# Altium integrated library Cypress PSoC 1.IntLib: 188 symbols (part 9 of 11)
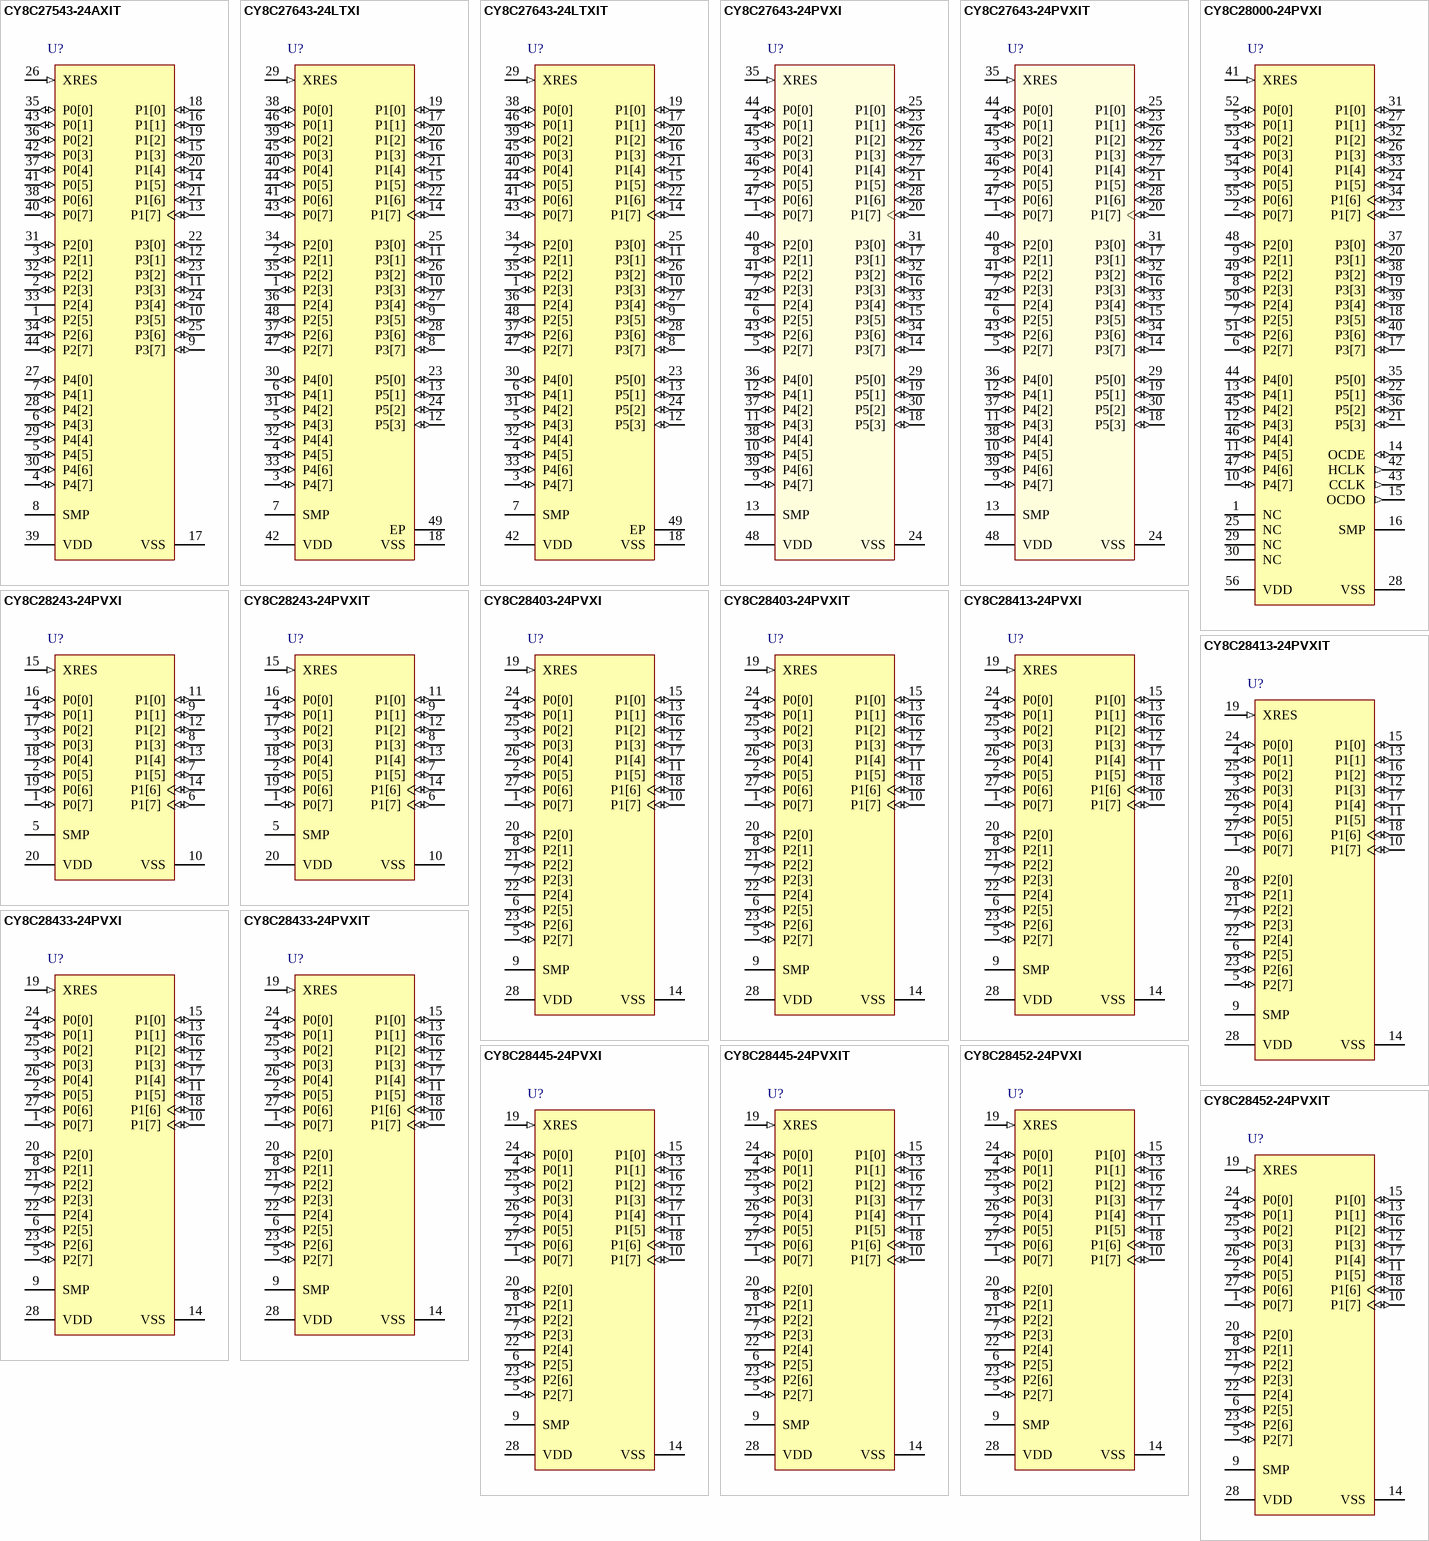
[diagram p19: symbols CY8C27543-24AXIT to CY8C28452-24PVXIT]

## CY8C28413-24PVXIT
designator U?
PSoC Programmable System-on-Chip, 16 KB Flash, 24 GPIOs, 3.00 to 5.25 V, 28-Pin SSOP (O28.21), Tape and Reel; Manufacturer: Cypress; PartNumber: CY8C28413-24PVXIT; No. of CapSense IO: 24; Flash (KB): 16; Max. Operating Voltage (V): 5.25; Min. Operating Voltage (V): 3.00; No. of Programmable Digital Blocks: 12; DatasheetVersion: Rev. *M; PackageVersion: *C; PackageReference: PVX28; PackageDescription: 28-Pin SSOP, Body 10.2 x 5.3 mm, Pitch 0.65 mm; Supplier 1: Digi-Key; Supplier Part Number 1: CY8C28413-24PVXIT-ND; Supplier 2: Mouser; Supplier Part Number 2: 727-8C2841324PVXIT; Mounting Technology: Surface Mount; ComponentLink1Description: Manufacturer URL; ComponentLink1URL: http://www.cypress.com/; ComponentLink2Description: Datasheet; ComponentLink2URL: http://www.cypress.com/?docID=46091; ComponentLink3Description: Package Specification; ComponentLink3URL: http://www.cypress.com/?docID=1371; ComponentLink4Description: Product URL; ComponentLink4URL: http://www.cypress.com/?rID=35242
footprint CYP-PVX28_N (SOP, 28-Leads, Body 10.2x5.3mm, Pitch 0.65mm, IPC Medium Density)
footprint CYP-PVX28_L (SOP, 28-Leads, Body 10.2x5.3mm, Pitch 0.65mm, IPC High Density)
footprint CYP-PVX28_M (SOP, 28-Leads, Body 10.2x5.3mm, Pitch 0.65mm, IPC Low Density)
pins: 1 P0[7] (io) "Analog column mux and SAR ADC input.", 2 P0[5] (io) "Analog column mux and SAR ADC input.Analog column output.", 3 P0[3] (io) "Analog column mux and SAR ADC input.Analog column output.", 4 P0[1] (io) "Analog column mux and SAR ADC intput.", 5 P2[7] (io), 6 P2[5] (io), 7 P2[3] (io) "Direct switched capacitor block input.", 8 P2[1] (io) "Direct switched capacitor block input.", 9 SMP (power) "Switch Mode Pump (SMP) connection to external components.", 10 P1[7] (io) "I2C0 Serial Clock (SCL).", 11 P1[5] (io) "I2C0 Serial Data (SDA).", 12 P1[3] (io), 13 P1[1] (io) "Crystal Input (XTALin), I2C0 Serial Clock(SCL),ISSP-SCLK", 14 VSS (power) "Ground connection.", 15 P1[0] (io) "Crystal Output (XTALout), I2C0 Serial Data(SDA),ISSP-SDATA.", 16 P1[2] (io) "I2C1 Serial Data (SDA).", 17 P1[4] (io) "Optional External Clock Input (EXTCLK).", 18 P1[6] (io) "I2C1 Serial Clock (SCL).", 19 XRES (in) "Active high external reset with internal", 20 P2[0] (io) "Direct switched capacitor block input.", 21 P2[2] (io) "Direct switched capacitor block input.", 22 P2[4] (power) "External Analog Ground (AGND).", 23 P2[6] (io) "External Voltage Reference (VRef).", 24 P0[0] (io) "Analog column mux and SAR ADC input.", 25 P0[2] (io) "Analog column mux and SAR ADC input.Analog column output.", 26 P0[4] (io) "Analog column mux and SAR ADC input.Analog column output.", 27 P0[6] (io) "Analog column mux and SAR ADC input.", 28 VDD (power) "Supply voltage."

## CY8C28433-24PVXI
designator U?
PSoC Programmable System-on-Chip, 16 KB Flash, 24 GPIOs, 3.00 to 5.25 V, 28 Pin SSOP (O28.21); Manufacturer: Cypress; PartNumber: CY8C28433-24PVXI; No. of CapSense IO: 24; Flash (KB): 16; Max. Operating Voltage (V): 5.25; Min. Operating Voltage (V): 3.00; No. of Programmable Digital Blocks: 12; DatasheetVersion: Rev. *M; PackageVersion: *C; PackageReference: PVX28; PackageDescription: 28-Pin SSOP, Body 10.2 x 5.3 mm, Pitch 0.65 mm; Supplier 1: Digi-Key; Supplier Part Number 1: 428-2998-5-ND; Supplier 2: Mouser; Supplier Part Number 2: 727-CY8C2843324PVXI; Mounting Technology: Surface Mount; ComponentLink1Description: Manufacturer URL; ComponentLink1URL: http://www.cypress.com/; ComponentLink2Description: Datasheet; ComponentLink2URL: http://www.cypress.com/?docID=46091; ComponentLink3Description: Package Specification; ComponentLink3URL: http://www.cypress.com/?docID=1371; ComponentLink4Description: Product URL; ComponentLink4URL: http://www.cypress.com/?rID=35242
footprint CYP-PVX28_N (SOP, 28-Leads, Body 10.2x5.3mm, Pitch 0.65mm, IPC Medium Density)
footprint CYP-PVX28_L (SOP, 28-Leads, Body 10.2x5.3mm, Pitch 0.65mm, IPC High Density)
footprint CYP-PVX28_M (SOP, 28-Leads, Body 10.2x5.3mm, Pitch 0.65mm, IPC Low Density)
pins: 1 P0[7] (io) "Analog column mux and SAR ADC input.", 2 P0[5] (io) "Analog column mux and SAR ADC input. Analog column output.", 3 P0[3] (io) "Analog column mux and SAR ADC input. Analog column output.", 4 P0[1] (io) "Analog column mux and SAR ADC input.", 5 P2[7] (io), 6 P2[5] (io), 7 P2[3] (io) "Direct switched capacitor block input.", 8 P2[1] (io) "Direct switched capacitor block input.", 9 SMP (power) "Switch Mode Pump (SMP) connection to external components.", 10 P1[7] (io) "I2C0 Serial Clock (SCL).", 11 P1[5] (io) "I2C0 Serial Data (SDA).", 12 P1[3] (io), 13 P1[1] (io) "Crystal Input (XTALin), I2C0 Serial Clock (SCL), ISSP-SCLK.", 14 VSS (power) "Ground connection.", 15 P1[0] (io) "Crystal Output (XTALout), I2C0 Serial Data (SDA), ISSP-SDATA", 16 P1[2] (io) "I2C1 Serial Data (SDA).", 17 P1[4] (io) "Optional External Clock Input (EXTCLK).", 18 P1[6] (io) "I2C1 Serial Clock (SCL).", 19 XRES (in) "Active high external reset with internal pull-down.", 20 P2[0] (io) "Direct switched capacitor block input.", 21 P2[2] (io) "Direct switched capacitor block input.", 22 P2[4] (power) "External Analog Ground (AGND).", 23 P2[6] (io) "External Voltage Reference (VRef).", 24 P0[0] (io) "Analog column mux and SAR ADC input.", 25 P0[2] (io) "Analog column mux and SAR ADC input. Analog column output.", 26 P0[4] (io) "Analog column mux and SAR ADC input. Analog column output.", 27 P0[6] (io) "Analog column mux and SAR ADC input.", 28 VDD (power) "Supply voltage."

## CY8C28433-24PVXIT
designator U?
PSoC Programmable System-on-Chip, 16 KB Flash, 24 GPIOs, 3.00 to 5.25 V, 28-Pin SSOP (O28.21), Tape and Reel; Manufacturer: Cypress; PartNumber: CY8C28433-24PVXIT; No. of CapSense IO: 24; Flash (KB): 16; Max. Operating Voltage (V): 5.25; Min. Operating Voltage (V): 3.00; No. of Programmable Digital Blocks: 12; DatasheetVersion: Rev. *M; PackageVersion: *C; PackageReference: PVX28; PackageDescription: 28-Pin SSOP, Body 10.2 x 5.3 mm, Pitch 0.65 mm; Supplier 1: Digi-Key; Supplier Part Number 1: CY8C28433-24PVXIT-ND; Supplier 2: Mouser; Supplier Part Number 2: 727-8C2843324PVXIT; Mounting Technology: Surface Mount; ComponentLink1Description: Manufacturer URL; ComponentLink1URL: http://www.cypress.com/; ComponentLink2Description: Datasheet; ComponentLink2URL: http://www.cypress.com/?docID=46091; ComponentLink3Description: Package Specification; ComponentLink3URL: http://www.cypress.com/?docID=1371; ComponentLink4Description: Product URL; ComponentLink4URL: http://www.cypress.com/?rID=35242
footprint CYP-PVX28_N (SOP, 28-Leads, Body 10.2x5.3mm, Pitch 0.65mm, IPC Medium Density)
footprint CYP-PVX28_L (SOP, 28-Leads, Body 10.2x5.3mm, Pitch 0.65mm, IPC High Density)
footprint CYP-PVX28_M (SOP, 28-Leads, Body 10.2x5.3mm, Pitch 0.65mm, IPC Low Density)
pins: 1 P0[7] (io) "Analog column mux and SAR ADC input.", 2 P0[5] (io) "Analog column mux and SAR ADC input. Analog column output.", 3 P0[3] (io) "Analog column mux and SAR ADC input. Analog column output.", 4 P0[1] (io) "Analog column mux and SAR ADC input.", 5 P2[7] (io), 6 P2[5] (io), 7 P2[3] (io) "Direct switched capacitor block input.", 8 P2[1] (io) "Direct switched capacitor block input.", 9 SMP (power) "Switch Mode Pump (SMP) connection to external components.", 10 P1[7] (io) "I2C0 Serial Clock (SCL).", 11 P1[5] (io) "I2C0 Serial Data (SDA).", 12 P1[3] (io), 13 P1[1] (io) "Crystal Input (XTALin), I2C0 Serial Clock (SCL), ISSP-SCLK.", 14 VSS (power) "Ground connection.", 15 P1[0] (io) "Crystal Output (XTALout), I2C0 Serial Data (SDA), ISSP-SDATA", 16 P1[2] (io) "I2C1 Serial Data (SDA).", 17 P1[4] (io) "Optional External Clock Input (EXTCLK).", 18 P1[6] (io) "I2C1 Serial Clock (SCL).", 19 XRES (in) "Active high external reset with internal pull-down.", 20 P2[0] (io) "Direct switched capacitor block input.", 21 P2[2] (io) "Direct switched capacitor block input.", 22 P2[4] (power) "External Analog Ground (AGND).", 23 P2[6] (io) "External Voltage Reference (VRef).", 24 P0[0] (io) "Analog column mux and SAR ADC input.", 25 P0[2] (io) "Analog column mux and SAR ADC input. Analog column output.", 26 P0[4] (io) "Analog column mux and SAR ADC input. Analog column output.", 27 P0[6] (io) "Analog column mux and SAR ADC input.", 28 VDD (power) "Supply voltage."

## CY8C28445-24PVXI
designator U?
PSoC Programmable System-on-Chip, 16 KB Flash, 24 GPIOs, 3.00 to 5.25 V, 28 Pin SSOP (O28.21); Manufacturer: Cypress; PartNumber: CY8C28445-24PVXI; No. of CapSense IO: 24; Flash (KB): 16; Max. Operating Voltage (V): 5.25; Min. Operating Voltage (V): 3.00; No. of Programmable Digital Blocks: 12; DatasheetVersion: Rev. *M; PackageVersion: *C; PackageReference: PVX28; PackageDescription: 28-Pin SSOP, Body 10.2 x 5.3 mm, Pitch 0.65 mm; Supplier 1: Digi-Key; Supplier Part Number 1: 428-2999-5-ND; Supplier 2: Newark; Supplier Part Number 2: 63R6713; Supplier 3: Mouser; Supplier Part Number 3: 727-CY8C2844524PVXI; Mounting Technology: Surface Mount; ComponentLink1Description: Manufacturer URL; ComponentLink1URL: http://www.cypress.com/; ComponentLink2Description: Datasheet; ComponentLink2URL: http://www.cypress.com/?docID=46091; ComponentLink3Description: Package Specification; ComponentLink3URL: http://www.cypress.com/?docID=1371; ComponentLink4Description: Product URL; ComponentLink4URL: http://www.cypress.com/?rID=35242
footprint CYP-PVX28_N (SOP, 28-Leads, Body 10.2x5.3mm, Pitch 0.65mm, IPC Medium Density)
footprint CYP-PVX28_L (SOP, 28-Leads, Body 10.2x5.3mm, Pitch 0.65mm, IPC High Density)
footprint CYP-PVX28_M (SOP, 28-Leads, Body 10.2x5.3mm, Pitch 0.65mm, IPC Low Density)
pins: 1 P0[7] (io) "Analog column mux and SAR ADC input.", 2 P0[5] (io) "Analog column mux and SAR ADC input. Analog column output.", 3 P0[3] (io) "Analog column mux and SAR ADC input. Analog column output.", 4 P0[1] (io) "Analog column mux and SAR ADC input.", 5 P2[7] (io), 6 P2[5] (io), 7 P2[3] (io) "Direct switched capacitor block input.", 8 P2[1] (io) "Direct switched capacitor block input.", 9 SMP (power) "Switch Mode Pump (SMP) connection to external components.", 10 P1[7] (io) "I2C0 Serial Clock (SCL).", 11 P1[5] (io) "I2C0 Serial Data (SDA).", 12 P1[3] (io), 13 P1[1] (io) "Crystal Input (XTALin), I2C0 Serial Clock (SCL), ISSP-SCLK.", 14 VSS (power) "Ground connection.", 15 P1[0] (io) "Crystal Output (XTALout), I2C0 Serial Data (SDA), ISSP-SDATA.", 16 P1[2] (io) "I2C1 Serial Data (SDA).[10]", 17 P1[4] (io) "Optional External Clock Input (EXTCLK).", 18 P1[6] (io) "I2C1 Serial Clock (SCL).", 19 XRES (in) "Active high external reset with internal pull-down.", 20 P2[0] (io) "Direct switched capacitor block input.", 21 P2[2] (io) "Direct switched capacitor block input.", 22 P2[4] (power) "External Analog Ground (AGND).", 23 P2[6] (io) "External Voltage Reference (VRef).", 24 P0[0] (io) "Analog column mux and SAR ADC input.", 25 P0[2] (io) "Analog column mux and SAR ADC input. Analog column output.", 26 P0[4] (io) "Analog column mux and SAR ADC input. Analog column output.", 27 P0[6] (io) "Analog column mux and SAR ADC input.", 28 VDD (power) "Supply voltage."

## CY8C28445-24PVXIT
designator U?
PSoC Programmable System-on-Chip, 16 KB Flash, 24 GPIOs, 3.00 to 5.25 V, 28 Pin SSOP (O28.21), Tape and Reel; Manufacturer: Cypress; PartNumber: CY8C28445-24PVXIT; No. of CapSense IO: 24; Flash (KB): 16; Max. Operating Voltage (V): 5.25; Min. Operating Voltage (V): 3.00; No. of Programmable Digital Blocks: 12; DatasheetVersion: Rev. *M; PackageVersion: *C; PackageReference: PVX28; PackageDescription: 28-Pin SSOP, Body 10.2 x 5.3 mm, Pitch 0.65 mm; Supplier 1: Digi-Key; Supplier Part Number 1: CY8C28445-24PVXIT-ND; Supplier 2: Newark; Supplier Part Number 2: 74R6206; Supplier 3: Mouser; Supplier Part Number 3: 727-8C2844524PVXIT; Mounting Technology: Surface Mount; ComponentLink1Description: Manufacturer URL; ComponentLink1URL: http://www.cypress.com/; ComponentLink2Description: Datasheet; ComponentLink2URL: http://www.cypress.com/?docID=46091; ComponentLink3Description: Package Specification; ComponentLink3URL: http://www.cypress.com/?docID=1371; ComponentLink4Description: Product URL; ComponentLink4URL: http://www.cypress.com/?rID=35242
footprint CYP-PVX28_N (SOP, 28-Leads, Body 10.2x5.3mm, Pitch 0.65mm, IPC Medium Density)
footprint CYP-PVX28_L (SOP, 28-Leads, Body 10.2x5.3mm, Pitch 0.65mm, IPC High Density)
footprint CYP-PVX28_M (SOP, 28-Leads, Body 10.2x5.3mm, Pitch 0.65mm, IPC Low Density)
pins: 1 P0[7] (io) "Analog column mux and SAR ADC input.", 2 P0[5] (io) "Analog column mux and SAR ADC input. Analog column output.", 3 P0[3] (io) "Analog column mux and SAR ADC input. Analog column output.", 4 P0[1] (io) "Analog column mux and SAR ADC input.", 5 P2[7] (io), 6 P2[5] (io), 7 P2[3] (io) "Direct switched capacitor block input.", 8 P2[1] (io) "Direct switched capacitor block input.", 9 SMP (power) "Switch Mode Pump (SMP) connection to external components.", 10 P1[7] (io) "I2C0 Serial Clock (SCL).", 11 P1[5] (io) "I2C0 Serial Data (SDA).", 12 P1[3] (io), 13 P1[1] (io) "Crystal Input (XTALin), I2C0 Serial Clock (SCL), ISSP-SCLK.", 14 VSS (power) "Ground connection.", 15 P1[0] (io) "Crystal Output (XTALout), I2C0 Serial Data (SDA), ISSP-SDATA.", 16 P1[2] (io) "I2C1 Serial Data (SDA).[10]", 17 P1[4] (io) "Optional External Clock Input (EXTCLK).", 18 P1[6] (io) "I2C1 Serial Clock (SCL).", 19 XRES (in) "Active high external reset with internal pull-down.", 20 P2[0] (io) "Direct switched capacitor block input.", 21 P2[2] (io) "Direct switched capacitor block input.", 22 P2[4] (power) "External Analog Ground (AGND).", 23 P2[6] (io) "External Voltage Reference (VRef).", 24 P0[0] (io) "Analog column mux and SAR ADC input.", 25 P0[2] (io) "Analog column mux and SAR ADC input. Analog column output.", 26 P0[4] (io) "Analog column mux and SAR ADC input. Analog column output.", 27 P0[6] (io) "Analog column mux and SAR ADC input.", 28 VDD (power) "Supply voltage."

## CY8C28452-24PVXI
designator U?
PSoC Programmable System-on-Chip, 16 KB Flash, 24 GPIOs, 3.00 to 5.25 V, 28-Pin SSOP (O28.21); Manufacturer: Cypress; PartNumber: CY8C28452-24PVXI; No. of CapSense IO: 24; Flash (KB): 16; Max. Operating Voltage (V): 5.25; Min. Operating Voltage (V): 3.00; No. of Programmable Digital Blocks: 8; DatasheetVersion: Rev. *M; PackageVersion: *C; PackageReference: PVX28; PackageDescription: 28-Pin SSOP, Body 10.2 x 5.3 mm, Pitch 0.65 mm; Supplier 1: Digi-Key; Supplier Part Number 1: 428-3000-5-ND; Supplier 2: Mouser; Supplier Part Number 2: 727-CY8C2845224PVXI; Mounting Technology: Surface Mount; ComponentLink1Description: Manufacturer URL; ComponentLink1URL: http://www.cypress.com/; ComponentLink2Description: Datasheet; ComponentLink2URL: http://www.cypress.com/?docID=46091; ComponentLink3Description: Package Specification; ComponentLink3URL: http://www.cypress.com/?docID=1371; ComponentLink4Description: Product URL; ComponentLink4URL: http://www.cypress.com/?rID=35242
footprint CYP-PVX28_N (SOP, 28-Leads, Body 10.2x5.3mm, Pitch 0.65mm, IPC Medium Density)
footprint CYP-PVX28_L (SOP, 28-Leads, Body 10.2x5.3mm, Pitch 0.65mm, IPC High Density)
footprint CYP-PVX28_M (SOP, 28-Leads, Body 10.2x5.3mm, Pitch 0.65mm, IPC Low Density)
pins: 1 P0[7] (io) "Analog column mux and SAR ADC input.", 2 P0[5] (io) "Analog column mux and SAR ADC input. Analog column output.", 3 P0[3] (io) "Analog column mux and SAR ADC input. Analog column output.", 4 P0[1] (io) "Analog column mux and SAR ADC input.", 5 P2[7] (io), 6 P2[5] (io), 7 P2[3] (io) "Direct switched capacitor block input.", 8 P2[1] (io) "Direct switched capacitor block input.", 9 SMP (power) "Switch Mode Pump (SMP) connection to external components.", 10 P1[7] (io) "I2C0 Serial Clock (SCL).", 11 P1[5] (io) "I2C0 Serial Data (SDA).", 12 P1[3] (io), 13 P1[1] (io) "Crystal Input (XTALin), I2C0 Serial Clock (SCL), ISSP-SCLK.", 14 VSS (power) "Ground connection.", 15 P1[0] (io) "Crystal Output (XTALout), I2C0 Serial Data (SDA), ISSP-SDATA.", 16 P1[2] (io) "I2C1 Serial Data (SDA).", 17 P1[4] (io) "Optional External Clock Input (EXTCLK).", 18 P1[6] (io) "I2C1 Serial Clock (SCL).", 19 XRES (in) "Active high external reset with internal pull-down.", 20 P2[0] (io) "Direct switched capacitor block input.", 21 P2[2] (io) "Direct switched capacitor block input.", 22 P2[4] (power) "External Analog Ground (AGND).", 23 P2[6] (io) "External Voltage Reference (VRef).", 24 P0[0] (io) "Analog column mux and SAR ADC input.", 25 P0[2] (io) "Analog column mux and SAR ADC input. Analog column output.", 26 P0[4] (io) "Analog column mux and SAR ADC input. Analog column output.", 27 P0[6] (io) "Analog column mux and SAR ADC input.", 28 VDD (power) "Supply voltage."

## CY8C28452-24PVXIT
designator U?
PSoC Programmable System-on-Chip, 16 KB Flash, 24 GPIOs, 3.00 to 5.25 V, 28 Pin SSOP ( O28.21), Tape and Reel; Manufacturer: Cypress; PartNumber: CY8C28452-24PVXIT; No. of CapSense IO: 24; Flash (KB): 16; Max. Operating Voltage (V): 5.25; Min. Operating Voltage (V): 3.00; No. of Programmable Digital Blocks: 8; DatasheetVersion: Rev. *M; PackageVersion: *C; PackageReference: PVX28; PackageDescription: 28-Pin SSOP, Body 10.2 x 5.3 mm, Pitch 0.65 mm; Supplier 1: Digi-Key; Supplier Part Number 1: CY8C28452-24PVXIT-ND; Supplier 2: Mouser; Supplier Part Number 2: 727-8C2845224PVXIT; Mounting Technology: Surface Mount; ComponentLink1Description: Manufacturer URL; ComponentLink1URL: http://www.cypress.com/; ComponentLink2Description: Datasheet; ComponentLink2URL: http://www.cypress.com/?docID=46091; ComponentLink3Description: Package Specification; ComponentLink3URL: http://www.cypress.com/?docID=1371; ComponentLink4Description: Product URL; ComponentLink4URL: http://www.cypress.com/?rID=35242
footprint CYP-PVX28_N (SOP, 28-Leads, Body 10.2x5.3mm, Pitch 0.65mm, IPC Medium Density)
footprint CYP-PVX28_L (SOP, 28-Leads, Body 10.2x5.3mm, Pitch 0.65mm, IPC High Density)
footprint CYP-PVX28_M (SOP, 28-Leads, Body 10.2x5.3mm, Pitch 0.65mm, IPC Low Density)
pins: 1 P0[7] (io) "Analog column mux and SAR ADC input.", 2 P0[5] (io) "Analog column mux and SAR ADC input. Analog column output.", 3 P0[3] (io) "Analog column mux and SAR ADC input. Analog column output.", 4 P0[1] (io) "Analog column mux and SAR ADC input.", 5 P2[7] (io), 6 P2[5] (io), 7 P2[3] (io) "Direct switched capacitor block input.", 8 P2[1] (io) "Direct switched capacitor block input.", 9 SMP (power) "Switch Mode Pump (SMP) connection to external components.", 10 P1[7] (io) "I2C0 Serial Clock (SCL).", 11 P1[5] (io) "I2C0 Serial Data (SDA).", 12 P1[3] (io), 13 P1[1] (io) "Crystal Input (XTALin), I2C0 Serial Clock (SCL), ISSP-SCLK.", 14 VSS (power) "Ground connection.", 15 P1[0] (io) "Crystal Output (XTALout), I2C0 Serial Data (SDA), ISSP-SDATA.", 16 P1[2] (io) "I2C1 Serial Data (SDA).", 17 P1[4] (io) "Optional External Clock Input (EXTCLK).", 18 P1[6] (io) "I2C1 Serial Clock (SCL).", 19 XRES (in) "Active high external reset with internal pull-down.", 20 P2[0] (io) "Direct switched capacitor block input.", 21 P2[2] (io) "Direct switched capacitor block input.", 22 P2[4] (power) "External Analog Ground (AGND).", 23 P2[6] (io) "External Voltage Reference (VRef).", 24 P0[0] (io) "Analog column mux and SAR ADC input.", 25 P0[2] (io) "Analog column mux and SAR ADC input. Analog column output.", 26 P0[4] (io) "Analog column mux and SAR ADC input. Analog column output.", 27 P0[6] (io) "Analog column mux and SAR ADC input.", 28 VDD (power) "Supply voltage."

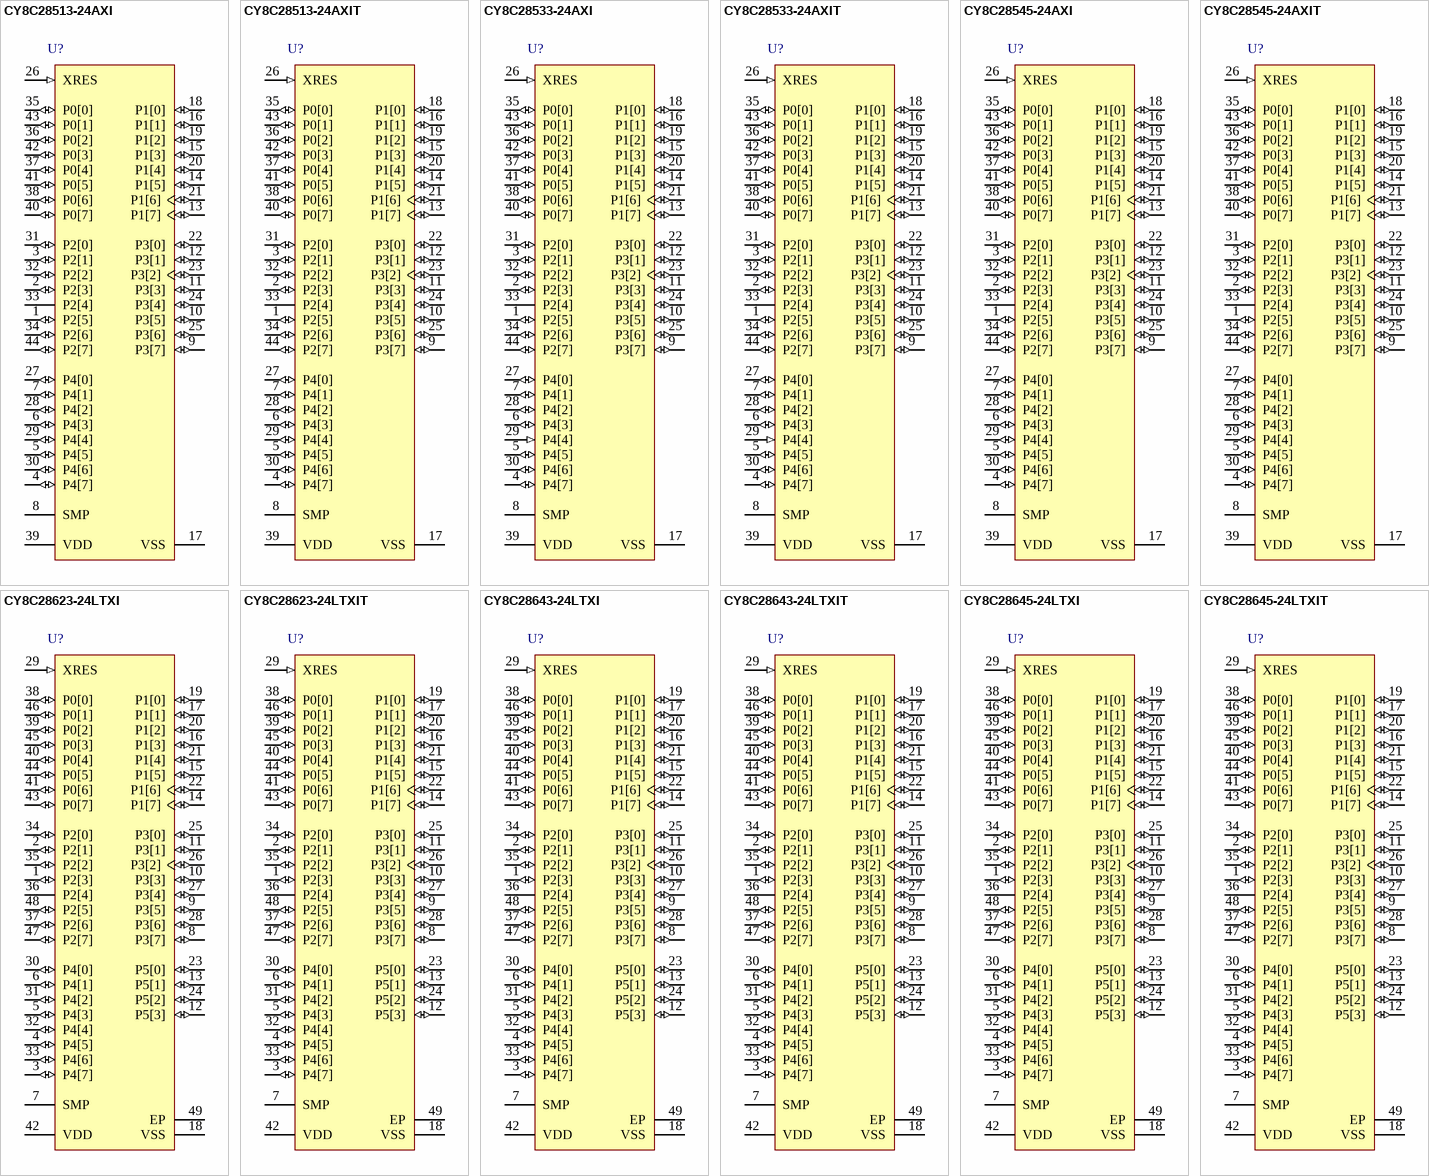
[diagram p9: symbols CY8C28513-24AXI to CY8C28645-24LTXIT]

## CY8C28513-24AXI
designator U?
PSoC Programmable System-on-Chip, 16 KB Flash, 24 GPIOs, 3.00 to 5.25 V, 44-Pin TQFP (A44S); Manufacturer: Cypress; PartNumber: CY8C28513-24AXI; No. of CapSense IO: 24; Flash (KB): 16; Max. Operating Voltage (V): 5.25; Min. Operating Voltage (V): 3.00; No. of Programmable Digital Blocks: 12; DatasheetVersion: Rev. *M; PackageVersion: *D; PackageReference: AX44; PackageDescription: 44-Pin Thin Plastic Quad Flatpack, Body 10 x 10 mm, Pitch 0.8 mm; Supplier 1: Digi-Key; Supplier Part Number 1: CY8C28513-24AXI-ND; Supplier 2: Mouser; Supplier Part Number 2: 727-CY8C2851324AXI; Mounting Technology: Surface Mount; Code_JEDEC: MS-026; ComponentLink1Description: Manufacturer URL; ComponentLink1URL: http://www.cypress.com/; ComponentLink2Description: Datasheet; ComponentLink2URL: http://www.cypress.com/?docID=46091; ComponentLink3Description: Package Specification; ComponentLink3URL: http://www.cypress.com/?docID=20444; ComponentLink4Description: Product URL; ComponentLink4URL: http://www.cypress.com/?rID=35242
footprint CYP-AX44_N (QFP, 44-Leads, Body 10x10mm, Pitch 0.8mm, IPC Medium Density)
footprint CYP-AX44_L (QFP, 44-Leads, Body 10x10mm, Pitch 0.8mm, IPC High Density)
footprint CYP-AX44_M (QFP, 44-Leads, Body 10x10mm, Pitch 0.8mm, IPC Low Density)
pins: 1 P2[5] (io), 2 P2[3] (io) "Direct switched capacitor block input.", 3 P2[1] (io) "Direct switched capacitor block input.", 4 P4[7] (io), 5 P4[5] (io), 6 P4[3] (io), 7 P4[1] (io), 8 SMP (power) "Switch Mode Pump (SMP) connection to external components.", 9 P3[7] (io), 10 P3[5] (io), 11 P3[3] (io), 12 P3[1] (io), 13 P1[7] (io) "I2C0 Serial Clock (SCL).", 14 P1[5] (io) "I2C0 Serial Data (SDA).", 15 P1[3] (io), 16 P1[1] (io) "Crystal Input (XTALin), I2C0 Serial Clock (SCL), ISSP-SCLK.", 17 VSS (power) "Ground connection.", 18 P1[0] (io) "Crystal Output (XTALout), I2C0 Serial Data (SDA), ISSP-SDATA.", 19 P1[2] (io) "I2C1 Serial Data (SDA).", 20 P1[4] (io) "Optional External Clock Input (EXTCLK).", 21 P1[6] (io) "I2C1 Serial Clock (SCL).", 22 P3[0] (io) "I2C1 Serial Data (SDA).", 23 P3[2] (io) "I2C1 Serial Clock (SCL).", 24 P3[4] (io), 25 P3[6] (io), 26 XRES (in) "Active high external reset with internal pull-down.", 27 P4[0] (io), 28 P4[2] (io), 29 P4[4] (io), 30 P4[6] (io), 31 P2[0] (io) "Direct switched capacitor block input.", 32 P2[2] (io) "Direct switched capacitor block input.", 33 P2[4] (power) "External Analog Ground (AGND).", 34 P2[6] (io) "External Voltage Reference (VRef).", 35 P0[0] (io) "Analog column mux and SAR ADC input.", 36 P0[2] (io) "Analog column mux and SAR ADC input. Analog column output.", 37 P0[4] (io) "Analog column mux and SAR ADC input. Analog column output.", 38 P0[6] (io) "Analog column mux and SAR ADC input.", 39 VDD (power) "Supply voltage.", 40 P0[7] (io) "Analog column mux and SAR ADC input.", 41 P0[5] (io) "Analog column mux and SAR ADC input. Analog column output.", 42 P0[3] (io) "Analog column mux and SAR ADC input. Analog column output.", 43 P0[1] (io) "Analog column mux and SAR ADC input.", 44 P2[7] (io)

## CY8C28513-24AXIT
designator U?
PSoC Programmable System-on-Chip, 16 KB Flash, 24 GPIOs, 3.00 to 5.25 V, 44-Pin TQFP (A44S), Tape and Reel; Manufacturer: Cypress; PartNumber: CY8C28513-24AXIT; No. of CapSense IO: 24; Flash (KB): 16; Max. Operating Voltage (V): 5.25; Min. Operating Voltage (V): 3.00; No. of Programmable Digital Blocks: 12; DatasheetVersion: Rev. *M; PackageVersion: *D; PackageReference: AX44; PackageDescription: 44-Pin Thin Plastic Quad Flatpack, Body 10 x 10 mm, Pitch 0.8 mm; Supplier 1: Digi-Key; Supplier Part Number 1: CY8C28513-24AXIT-ND; Supplier 2: Mouser; Supplier Part Number 2: 727-8C2851324AXIT; Mounting Technology: Surface Mount; Code_JEDEC: MS-026; ComponentLink1Description: Manufacturer URL; ComponentLink1URL: http://www.cypress.com/; ComponentLink2Description: Datasheet; ComponentLink2URL: http://www.cypress.com/?docID=46091; ComponentLink3Description: Package Specification; ComponentLink3URL: http://www.cypress.com/?docID=20444; ComponentLink4Description: Product URL; ComponentLink4URL: http://www.cypress.com/?rID=35242
footprint CYP-AX44_N (QFP, 44-Leads, Body 10x10mm, Pitch 0.8mm, IPC Medium Density)
footprint CYP-AX44_L (QFP, 44-Leads, Body 10x10mm, Pitch 0.8mm, IPC High Density)
footprint CYP-AX44_M (QFP, 44-Leads, Body 10x10mm, Pitch 0.8mm, IPC Low Density)
pins: 1 P2[5] (io), 2 P2[3] (io) "Direct switched capacitor block input.", 3 P2[1] (io) "Direct switched capacitor block input.", 4 P4[7] (io), 5 P4[5] (io), 6 P4[3] (io), 7 P4[1] (io), 8 SMP (power) "Switch Mode Pump (SMP) connection to external components.", 9 P3[7] (io), 10 P3[5] (io), 11 P3[3] (io), 12 P3[1] (io), 13 P1[7] (io) "I2C0 Serial Clock (SCL).", 14 P1[5] (io) "I2C0 Serial Data (SDA).", 15 P1[3] (io), 16 P1[1] (io) "Crystal Input (XTALin), I2C0 Serial Clock (SCL), ISSP-SCLK.", 17 VSS (power) "Ground connection.", 18 P1[0] (io) "Crystal Output (XTALout), I2C0 Serial Data (SDA), ISSP-SDATA.", 19 P1[2] (io) "I2C1 Serial Data (SDA).", 20 P1[4] (io) "Optional External Clock Input (EXTCLK).", 21 P1[6] (io) "I2C1 Serial Clock (SCL).", 22 P3[0] (io) "I2C1 Serial Data (SDA).", 23 P3[2] (io) "I2C1 Serial Clock (SCL).", 24 P3[4] (io), 25 P3[6] (io), 26 XRES (in) "Active high external reset with internal pull-down.", 27 P4[0] (io), 28 P4[2] (io), 29 P4[4] (io), 30 P4[6] (io), 31 P2[0] (io) "Direct switched capacitor block input.", 32 P2[2] (io) "Direct switched capacitor block input.", 33 P2[4] (power) "External Analog Ground (AGND).", 34 P2[6] (io) "External Voltage Reference (VRef).", 35 P0[0] (io) "Analog column mux and SAR ADC input.", 36 P0[2] (io) "Analog column mux and SAR ADC input. Analog column output.", 37 P0[4] (io) "Analog column mux and SAR ADC input. Analog column output.", 38 P0[6] (io) "Analog column mux and SAR ADC input.", 39 VDD (power) "Supply voltage.", 40 P0[7] (io) "Analog column mux and SAR ADC input.", 41 P0[5] (io) "Analog column mux and SAR ADC input. Analog column output.", 42 P0[3] (io) "Analog column mux and SAR ADC input. Analog column output.", 43 P0[1] (io) "Analog column mux and SAR ADC input.", 44 P2[7] (io)

## CY8C28533-24AXI
designator U?
PSoC Programmable System-on-Chip, 16 KB Flash, 40 GPIOs, 3.00 to 5.25 V, 44-Pin TQFP (A44S); Manufacturer: Cypress; PartNumber: CY8C28533-24AXI; No. of CapSense IO: 40; Flash (KB): 16; Max. Operating Voltage (V): 5.25; Min. Operating Voltage (V): 3.00; No. of Programmable Digital Blocks: 12; DatasheetVersion: Rev. *M; PackageVersion: *D; PackageReference: AX44; PackageDescription: 44-Pin Thin Plastic Quad Flatpack, Body 10 x 10 mm, Pitch 0.8 mm; Supplier 1: Digi-Key; Supplier Part Number 1: CY8C28533-24AXI-ND; Supplier 2: Mouser; Supplier Part Number 2: 727-CY8C2853324AXI; Mounting Technology: Surface Mount; Code_JEDEC: MS-026; ComponentLink1Description: Manufacturer URL; ComponentLink1URL: http://www.cypress.com/; ComponentLink2Description: Datasheet; ComponentLink2URL: http://www.cypress.com/?docID=46091; ComponentLink3Description: Package Specification; ComponentLink3URL: http://www.cypress.com/?docID=20444; ComponentLink4Description: Product URL; ComponentLink4URL: http://www.cypress.com/?rID=35242
footprint CYP-AX44_N (QFP, 44-Leads, Body 10x10mm, Pitch 0.8mm, IPC Medium Density)
footprint CYP-AX44_L (QFP, 44-Leads, Body 10x10mm, Pitch 0.8mm, IPC High Density)
footprint CYP-AX44_M (QFP, 44-Leads, Body 10x10mm, Pitch 0.8mm, IPC Low Density)
pins: 1 P2[5] (io), 2 P2[3] (io) "Direct switched capacitor block input.", 3 P2[1] (io) "Direct switched capacitor block input.", 4 P4[7] (io), 5 P4[5] (io), 6 P4[3] (io), 7 P4[1] (io), 8 SMP (power) "Switch Mode Pump (SMP) connection to external components.", 9 P3[7] (io), 10 P3[5] (io), 11 P3[3] (io), 12 P3[1] (io), 13 P1[7] (io) "I2C0 Serial Clock (SCL).", 14 P1[5] (io) "I2C0 Serial Data (SDA).", 15 P1[3] (io), 16 P1[1] (io) "Crystal Input (XTALin), I2C0 Serial Clock (SCL), ISSP-SCLK.", 17 VSS (power) "Ground connection.", 18 P1[0] (io) "Crystal Output (XTALout), I2C0 Serial Data (SDA), ISSP-SDATA.", 19 P1[2] (io) "I2C1 Serial Data (SDA).", 20 P1[4] (io) "Optional External Clock Input (EXTCLK).", 21 P1[6] (io) "I2C1 Serial Clock (SCL).", 22 P3[0] (io) "I2C1 Serial Data (SDA).", 23 P3[2] (io) "I2C1 Serial Clock (SCL).", 24 P3[4] (io), 25 P3[6] (io), 26 XRES (in) "Active high external reset with internal pull-down.", 27 P4[0] (io), 28 P4[2] (io), 29 P4[4] (in), 30 P4[6] (io), 31 P2[0] (io) "Direct switched capacitor block input.", 32 P2[2] (io) "Direct switched capacitor block input.", 33 P2[4] (power) "External Analog Ground (AGND).", 34 P2[6] (io) "External Voltage Reference (VRef).", 35 P0[0] (io) "Analog column mux and SAR ADC input.", 36 P0[2] (io) "Analog column mux and SAR ADC input. Analog column output.", 37 P0[4] (io) "Analog column mux and SAR ADC input. Analog column output.", 38 P0[6] (io) "Analog column mux and SAR ADC input.", 39 VDD (power) "Supply voltage.", 40 P0[7] (io) "Analog column mux and SAR ADC input.", 41 P0[5] (io) "Analog column mux and SAR ADC input. Analog column output.", 42 P0[3] (io) "Analog column mux and SAR ADC input. Analog column output.", 43 P0[1] (io) "Analog column mux and SAR ADC input.", 44 P2[7] (io)

## CY8C28533-24AXIT
designator U?
PSoC Programmable System-on-Chip, 16 KB Flash, 40 GPIOs, 3.00 to 5.25 V, 44-Pin TQFP (A44S), Tape and Reel; Manufacturer: Cypress; PartNumber: CY8C28533-24AXIT; No. of CapSense IO: 40; Flash (KB): 16; Max. Operating Voltage (V): 5.25; Min. Operating Voltage (V): 3.00; No. of Programmable Digital Blocks: 12; DatasheetVersion: Rev. *M; PackageVersion: *D; PackageReference: AX44; PackageDescription: 44-Pin Thin Plastic Quad Flatpack, Body 10 x 10 mm, Pitch 0.8 mm; Supplier 1: Digi-Key; Supplier Part Number 1: CY8C28533-24AXIT-ND; Supplier 2: Mouser; Supplier Part Number 2: 727-8C2853324AXIT; Mounting Technology: Surface Mount; Code_JEDEC: MS-026; ComponentLink1Description: Manufacturer URL; ComponentLink1URL: http://www.cypress.com/; ComponentLink2Description: Datasheet; ComponentLink2URL: http://www.cypress.com/?docID=46091; ComponentLink3Description: Package Specification; ComponentLink3URL: http://www.cypress.com/?docID=20444; ComponentLink4Description: Product URL; ComponentLink4URL: http://www.cypress.com/?rID=35242
footprint CYP-AX44_N (QFP, 44-Leads, Body 10x10mm, Pitch 0.8mm, IPC Medium Density)
footprint CYP-AX44_L (QFP, 44-Leads, Body 10x10mm, Pitch 0.8mm, IPC High Density)
footprint CYP-AX44_M (QFP, 44-Leads, Body 10x10mm, Pitch 0.8mm, IPC Low Density)
pins: 1 P2[5] (io), 2 P2[3] (io) "Direct switched capacitor block input.", 3 P2[1] (io) "Direct switched capacitor block input.", 4 P4[7] (io), 5 P4[5] (io), 6 P4[3] (io), 7 P4[1] (io), 8 SMP (power) "Switch Mode Pump (SMP) connection to external components.", 9 P3[7] (io), 10 P3[5] (io), 11 P3[3] (io), 12 P3[1] (io), 13 P1[7] (io) "I2C0 Serial Clock (SCL).", 14 P1[5] (io) "I2C0 Serial Data (SDA).", 15 P1[3] (io), 16 P1[1] (io) "Crystal Input (XTALin), I2C0 Serial Clock (SCL), ISSP-SCLK.", 17 VSS (power) "Ground connection.", 18 P1[0] (io) "Crystal Output (XTALout), I2C0 Serial Data (SDA), ISSP-SDATA.", 19 P1[2] (io) "I2C1 Serial Data (SDA).", 20 P1[4] (io) "Optional External Clock Input (EXTCLK).", 21 P1[6] (io) "I2C1 Serial Clock (SCL).", 22 P3[0] (io) "I2C1 Serial Data (SDA).", 23 P3[2] (io) "I2C1 Serial Clock (SCL).", 24 P3[4] (io), 25 P3[6] (io), 26 XRES (in) "Active high external reset with internal pull-down.", 27 P4[0] (io), 28 P4[2] (io), 29 P4[4] (in), 30 P4[6] (io), 31 P2[0] (io) "Direct switched capacitor block input.", 32 P2[2] (io) "Direct switched capacitor block input.", 33 P2[4] (power) "External Analog Ground (AGND).", 34 P2[6] (io) "External Voltage Reference (VRef).", 35 P0[0] (io) "Analog column mux and SAR ADC input.", 36 P0[2] (io) "Analog column mux and SAR ADC input. Analog column output.", 37 P0[4] (io) "Analog column mux and SAR ADC input. Analog column output.", 38 P0[6] (io) "Analog column mux and SAR ADC input.", 39 VDD (power) "Supply voltage.", 40 P0[7] (io) "Analog column mux and SAR ADC input.", 41 P0[5] (io) "Analog column mux and SAR ADC input. Analog column output.", 42 P0[3] (io) "Analog column mux and SAR ADC input. Analog column output.", 43 P0[1] (io) "Analog column mux and SAR ADC input.", 44 P2[7] (io)

## CY8C28545-24AXI
designator U?
PSoC Programmable System-on-Chip, 16 KB Flash, 40 GPIOs, 3.00 to 5.25 V, 44-Pin TQFP (A44S); Manufacturer: Cypress; PartNumber: CY8C28545-24AXI; No. of CapSense IO: 40; Flash (KB): 16; Max. Operating Voltage (V): 5.25; Min. Operating Voltage (V): 3.00; No. of Programmable Digital Blocks: 12; DatasheetVersion: Rev. *M; PackageVersion: *D; PackageReference: AX44; PackageDescription: 44-Pin Thin Plastic Quad Flatpack, Body 10 x 10 mm, Pitch 0.8 mm; Supplier 1: Digi-Key; Supplier Part Number 1: CY8C28545-24AXI-ND; Supplier 2: Mouser; Supplier Part Number 2: 727-CY8C2854524AXI; Mounting Technology: Surface Mount; Code_JEDEC: MS-026; ComponentLink1Description: Manufacturer URL; ComponentLink1URL: http://www.cypress.com/; ComponentLink2Description: Datasheet; ComponentLink2URL: http://www.cypress.com/?docID=46091; ComponentLink3Description: Package Specification; ComponentLink3URL: http://www.cypress.com/?docID=20444; ComponentLink4Description: Product URL; ComponentLink4URL: http://www.cypress.com/?rID=35242
footprint CYP-AX44_N (QFP, 44-Leads, Body 10x10mm, Pitch 0.8mm, IPC Medium Density)
footprint CYP-AX44_L (QFP, 44-Leads, Body 10x10mm, Pitch 0.8mm, IPC High Density)
footprint CYP-AX44_M (QFP, 44-Leads, Body 10x10mm, Pitch 0.8mm, IPC Low Density)
pins: 1 P2[5] (io), 2 P2[3] (io) "Direct switched capacitor block input.", 3 P2[1] (io) "Direct switched capacitor block input.", 4 P4[7] (io), 5 P4[5] (io), 6 P4[3] (io), 7 P4[1] (io), 8 SMP (power) "Switch Mode Pump (SMP) connection to external components.", 9 P3[7] (io), 10 P3[5] (io), 11 P3[3] (io), 12 P3[1] (io), 13 P1[7] (io) "I2C0 Serial Clock (SCL).", 14 P1[5] (io) "I2C0 Serial Data (SDA).", 15 P1[3] (io), 16 P1[1] (io) "Crystal Input (XTALin), I2C0 Serial Clock (SCL), ISSP-SCLK.", 17 VSS (power) "Ground connection.", 18 P1[0] (io) "Crystal Output (XTALout), I2C0 Serial Data (SDA), ISSP-SDATA.", 19 P1[2] (io) "I2C1 Serial Data (SDA).", 20 P1[4] (io) "Optional External Clock Input (EXTCLK).", 21 P1[6] (io) "I2C1 Serial Clock (SCL).", 22 P3[0] (io) "I2C1 Serial Data (SDA).", 23 P3[2] (io) "I2C1 Serial Clock (SCL).", 24 P3[4] (io), 25 P3[6] (io), 26 XRES (in) "Active high external reset with internal pull-down.", 27 P4[0] (io), 28 P4[2] (io), 29 P4[4] (io), 30 P4[6] (io), 31 P2[0] (io) "Direct switched capacitor block input.", 32 P2[2] (io) "Direct switched capacitor block input.", 33 P2[4] (power) "External Analog Ground (AGND).", 34 P2[6] (io) "External Voltage Reference (VRef).", 35 P0[0] (io) "Analog column mux and SAR ADC input.", 36 P0[2] (io) "Analog column mux and SAR ADC input. Analog column output.", 37 P0[4] (io) "Analog column mux and SAR ADC input.Analog column output.", 38 P0[6] (io) "Analog column mux and SAR ADC input.", 39 VDD (power) "Supply voltage.", 40 P0[7] (io) "Analog column mux and SAR ADC input.", 41 P0[5] (io) "Analog column mux and SAR ADC input.Analog column output.", 42 P0[3] (io) "Analog column mux and SAR ADC input.Analog column output.", 43 P0[1] (io) "Analog column mux and SAR ADC input.", 44 P2[7] (io)

## CY8C28545-24AXIT
designator U?
PSoC Programmable System-on-Chip, 16 KB Flash, 40 GPIOs, 3.00 to 5.25 V, 44-Pin TQFP (A44S), Tape and Reel; Manufacturer: Cypress; PartNumber: CY8C28545-24AXIT; No. of CapSense IO: 40; Flash (KB): 16; Max. Operating Voltage (V): 5.25; Min. Operating Voltage (V): 3.00; No. of Programmable Digital Blocks: 12; DatasheetVersion: Rev. *M; PackageVersion: *D; PackageReference: AX44; PackageDescription: 44-Pin Thin Plastic Quad Flatpack, Body 10 x 10 mm, Pitch 0.8 mm; Supplier 1: Digi-Key; Supplier Part Number 1: CY8C28545-24AXIT-ND; Supplier 2: Mouser; Supplier Part Number 2: 727-8C2854524AXIT; Mounting Technology: Surface Mount; Code_JEDEC: MS-026; ComponentLink1Description: Manufacturer URL; ComponentLink1URL: http://www.cypress.com/; ComponentLink2Description: Datasheet; ComponentLink2URL: http://www.cypress.com/?docID=46091; ComponentLink3Description: Package Specification; ComponentLink3URL: http://www.cypress.com/?docID=20444; ComponentLink4Description: Product URL; ComponentLink4URL: http://www.cypress.com/?rID=35242
footprint CYP-AX44_N (QFP, 44-Leads, Body 10x10mm, Pitch 0.8mm, IPC Medium Density)
footprint CYP-AX44_L (QFP, 44-Leads, Body 10x10mm, Pitch 0.8mm, IPC High Density)
footprint CYP-AX44_M (QFP, 44-Leads, Body 10x10mm, Pitch 0.8mm, IPC Low Density)
pins: 1 P2[5] (io), 2 P2[3] (io) "Direct switched capacitor block input.", 3 P2[1] (io) "Direct switched capacitor block input.", 4 P4[7] (io), 5 P4[5] (io), 6 P4[3] (io), 7 P4[1] (io), 8 SMP (power) "Switch Mode Pump (SMP) connection to external components.", 9 P3[7] (io), 10 P3[5] (io), 11 P3[3] (io), 12 P3[1] (io), 13 P1[7] (io) "I2C0 Serial Clock (SCL).", 14 P1[5] (io) "I2C0 Serial Data (SDA).", 15 P1[3] (io), 16 P1[1] (io) "Crystal Input (XTALin), I2C0 Serial Clock (SCL), ISSP-SCLK.", 17 VSS (power) "Ground connection.", 18 P1[0] (io) "Crystal Output (XTALout), I2C0 Serial Data (SDA), ISSP-SDATA.", 19 P1[2] (io) "I2C1 Serial Data (SDA).", 20 P1[4] (io) "Optional External Clock Input (EXTCLK).", 21 P1[6] (io) "I2C1 Serial Clock (SCL).", 22 P3[0] (io) "I2C1 Serial Data (SDA).", 23 P3[2] (io) "I2C1 Serial Clock (SCL).", 24 P3[4] (io), 25 P3[6] (io), 26 XRES (in) "Active high external reset with internal pull-down.", 27 P4[0] (io), 28 P4[2] (io), 29 P4[4] (io), 30 P4[6] (io), 31 P2[0] (io) "Direct switched capacitor block input.", 32 P2[2] (io) "Direct switched capacitor block input.", 33 P2[4] (power) "External Analog Ground (AGND).", 34 P2[6] (io) "External Voltage Reference (VRef).", 35 P0[0] (io) "Analog column mux and SAR ADC input.", 36 P0[2] (io) "Analog column mux and SAR ADC input. Analog column output.", 37 P0[4] (io) "Analog column mux and SAR ADC input.Analog column output.", 38 P0[6] (io) "Analog column mux and SAR ADC input.", 39 VDD (power) "Supply voltage.", 40 P0[7] (io) "Analog column mux and SAR ADC input.", 41 P0[5] (io) "Analog column mux and SAR ADC input.Analog column output.", 42 P0[3] (io) "Analog column mux and SAR ADC input.Analog column output.", 43 P0[1] (io) "Analog column mux and SAR ADC input.", 44 P2[7] (io)

## CY8C28623-24LTXI
designator U?
PSoC Programmable System-on-Chip, 16 KB Flash, 44 GPIOs, 3.00 to 5.25 V, 48-Pin Sawn QFN (LT48D); Manufacturer: Cypress; PartNumber: CY8C28623-24LTXI; Flash (KB): 16; Max. Operating Voltage (V): 5.25; Min. Operating Voltage (V): 3.00; No. of Programmable Digital Blocks: 12; DatasheetVersion: Rev. *M; PackageReference: LT48D; PackageDescription: 48-Pin QFN, Body 7 x 7 mm, Pitch 0.5 mm; Supplier 1: Digi-Key; Supplier Part Number 1: CY8C28623-24LTXI-ND; Supplier 2: Mouser; Supplier Part Number 2: 727-CY8C2862324LTXI; Mounting Technology: Surface Mount; Code_JEDEC: MO-220; ComponentLink1Description: Manufacturer URL; ComponentLink1URL: http://www.cypress.com/; ComponentLink2Description: Datasheet; ComponentLink2URL: http://www.cypress.com/?docID=46091; ComponentLink3Description: Package Specification; ComponentLink3URL: http://www.cypress.com/?docID=39885; ComponentLink4Description: Product URL; ComponentLink4URL: http://www.cypress.com/?rID=35242
footprint CYP-LT48D_N (QFN, 48-Leads, Body 7x7mm, Pitch 0.5mm, Thermal Pad 5.6x5.6mm, IPC Medium Density)
footprint CYP-LT48D_L (QFN, 48-Leads, Body 7x7mm, Pitch 0.5mm, Thermal Pad 5.6x5.6mm, IPC High Density)
footprint CYP-LT48D_M (QFN, 48-Leads, Body 7x7mm, Pitch 0.5mm, Thermal Pad 5.6x5.6mm, IPC Low Density)
pins: 1 P2[3] (io) "Direct switched capacitor block input.", 2 P2[1] (io) "Direct switched capacitor block input.", 3 P4[7] (io), 4 P4[5] (io), 5 P4[3] (io), 6 P4[1] (io), 7 SMP (power) "Switch Mode Pump (SMP) connection to external components.", 8 P3[7] (io), 9 P3[5] (io), 10 P3[3] (io), 11 P3[1] (io), 12 P5[3] (io), 13 P5[1] (io), 14 P1[7] (io) "I2C0 Serial Clock (SCL).", 15 P1[5] (io) "I2C0 Serial Data (SDA).", 16 P1[3] (io), 17 P1[1] (io) "Crystal Input (XTALin), I2C0 Serial Clock (SCL),ISSP-SCLK.", 18 VSS (power) "Ground connection.", 19 P1[0] (io) "Crystal Output (XTALout), I2C0 Serial Data (SDA),ISSP-SDATA", 20 P1[2] (io) "I2C1 Serial Data (SDA).", 21 P1[4] (io) "Optional External Clock Input (EXTCLK)", 22 P1[6] (io) "I2C1 Serial Clock (SCL).", 23 P5[0] (io), 24 P5[2] (io), 25 P3[0] (io) "I2C1 Serial Data (SDA).", 26 P3[2] (io) "I2C1 Serial Clock (SCL).", 27 P3[4] (io), 28 P3[6] (io), 29 XRES (in) "Active high external reset with internal pull-down.", 30 P4[0] (io), 31 P4[2] (io), 32 P4[4] (io), 33 P4[6] (io), 34 P2[0] (io) "Direct switched capacitor block input.", 35 P2[2] (io) "Direct switched capacitor block input.", 36 P2[4] (power) "External Analog Ground (AGND).", 37 P2[6] (io) "External Voltage Reference (VRef).", 38 P0[0] (io) "Analog column mux and SAR ADC input.", 39 P0[2] (io) "Analog column mux and SAR ADC input.Analog column output.", 40 P0[4] (io) "Analog column mux and SAR ADC input.Analog column output.", 41 P0[6] (io) "Analog column mux and SAR ADC input.", 42 VDD (power) "Supply voltage.", 43 P0[7] (io) "Analog column mux and SAR ADC input.", 44 P0[5] (io) "Analog column mux and SAR ADC input. Analog column output.", 45 P0[3] (io) "Analog column mux and SAR ADC input. Analog column output.", 46 P0[1] (io) "Analog column mux and SAR ADC input.", 47 P2[7] (io), 48 P2[5] (io), 49 EP (power) "Thermal exposed pad."

## CY8C28623-24LTXIT
designator U?
PSoC Programmable System-on-Chip, 16 KB Flash, 44 GPIOs, 3.00 to 5.25 V, 48-Pin Sawn QFN (LT48D), Tape and Reel; Manufacturer: Cypress; PartNumber: CY8C28623-24LTXIT; No. of CapSense IO: 44; Flash (KB): 16; Max. Operating Voltage (V): 5.25; Min. Operating Voltage (V): 3.00; No. of Programmable Digital Blocks: 12; DatasheetVersion: Rev. *M; PackageReference: LT48D; PackageDescription: 48-Pin QFN, Body 7 x 7 mm, Pitch 0.5 mm; Supplier 1: Digi-Key; Supplier Part Number 1: CY8C28623-24LTXIT-ND; Supplier 2: Mouser; Supplier Part Number 2: 727-8C2862324LTXIT; Mounting Technology: Surface Mount; Code_JEDEC: MO-220; ComponentLink1Description: Manufacturer URL; ComponentLink1URL: http://www.cypress.com/; ComponentLink2Description: Datasheet; ComponentLink2URL: http://www.cypress.com/?docID=46091; ComponentLink3Description: Package Specification; ComponentLink3URL: http://www.cypress.com/?docID=39885; ComponentLink4Description: Product URL; ComponentLink4URL: http://www.cypress.com/?rID=35242
footprint CYP-LT48D_N (QFN, 48-Leads, Body 7x7mm, Pitch 0.5mm, Thermal Pad 5.6x5.6mm, IPC Medium Density)
footprint CYP-LT48D_L (QFN, 48-Leads, Body 7x7mm, Pitch 0.5mm, Thermal Pad 5.6x5.6mm, IPC High Density)
footprint CYP-LT48D_M (QFN, 48-Leads, Body 7x7mm, Pitch 0.5mm, Thermal Pad 5.6x5.6mm, IPC Low Density)
pins: 1 P2[3] (io) "Direct switched capacitor block input.", 2 P2[1] (io) "Direct switched capacitor block input.", 3 P4[7] (io), 4 P4[5] (io), 5 P4[3] (io), 6 P4[1] (io), 7 SMP (power) "Switch Mode Pump (SMP) connection to external components.", 8 P3[7] (io), 9 P3[5] (io), 10 P3[3] (io), 11 P3[1] (io), 12 P5[3] (io), 13 P5[1] (io), 14 P1[7] (io) "I2C0 Serial Clock (SCL).", 15 P1[5] (io) "I2C0 Serial Data (SDA).", 16 P1[3] (io), 17 P1[1] (io) "Crystal Input (XTALin), I2C0 Serial Clock (SCL),ISSP-SCLK.", 18 VSS (power) "Ground connection.", 19 P1[0] (io) "Crystal Output (XTALout), I2C0 Serial Data (SDA),ISSP-SDATA", 20 P1[2] (io) "I2C1 Serial Data (SDA).", 21 P1[4] (io) "Optional External Clock Input (EXTCLK)", 22 P1[6] (io) "I2C1 Serial Clock (SCL).", 23 P5[0] (io), 24 P5[2] (io), 25 P3[0] (io) "I2C1 Serial Data (SDA).", 26 P3[2] (io) "I2C1 Serial Clock (SCL).", 27 P3[4] (io), 28 P3[6] (io), 29 XRES (in) "Active high external reset with internal pull-down.", 30 P4[0] (io), 31 P4[2] (io), 32 P4[4] (io), 33 P4[6] (io), 34 P2[0] (io) "Direct switched capacitor block input.", 35 P2[2] (io) "Direct switched capacitor block input.", 36 P2[4] (power) "External Analog Ground (AGND).", 37 P2[6] (io) "External Voltage Reference (VRef).", 38 P0[0] (io) "Analog column mux and SAR ADC input.", 39 P0[2] (io) "Analog column mux and SAR ADC input.Analog column output.", 40 P0[4] (io) "Analog column mux and SAR ADC input.Analog column output.", 41 P0[6] (io) "Analog column mux and SAR ADC input.", 42 VDD (power) "Supply voltage.", 43 P0[7] (io) "Analog column mux and SAR ADC input.", 44 P0[5] (io) "Analog column mux and SAR ADC input. Analog column output.", 45 P0[3] (io) "Analog column mux and SAR ADC input. Analog column output.", 46 P0[1] (io) "Analog column mux and SAR ADC input.", 47 P2[7] (io), 48 P2[5] (io), 49 EP (power) "Thermal exposed pad."

## CY8C28643-24LTXI
designator U?
PSoC Programmable System-on-Chip, 16 KB Flash, 44 GPIOs, 3.00 to 5.25 V, 48-Pin Sawn QFN (LT48D); Manufacturer: Cypress; PartNumber: CY8C28643-24LTXI; No. of CapSense IO: 44; Flash (KB): 16; Max. Operating Voltage (V): 5.25; Min. Operating Voltage (V): 3.00; No. of Programmable Digital Blocks: 12; DatasheetVersion: Rev. *M; PackageReference: LT48D; PackageDescription: 48-Pin QFN, Body 7 x 7 mm, Pitch 0.5 mm; Supplier 1: Digi-Key; Supplier Part Number 1: CY8C28643-24LTXI-ND; Supplier 2: Mouser; Supplier Part Number 2: 727-CY8C2864324LTXI; Mounting Technology: Surface Mount; Code_JEDEC: MO-220; ComponentLink1Description: Manufacturer URL; ComponentLink1URL: http://www.cypress.com/; ComponentLink2Description: Datasheet; ComponentLink2URL: http://www.cypress.com/?docID=46091; ComponentLink3Description: Package Specification; ComponentLink3URL: http://www.cypress.com/?docID=39885; ComponentLink4Description: Product URL; ComponentLink4URL: http://www.cypress.com/?rID=35242
footprint CYP-LT48D_N (QFN, 48-Leads, Body 7x7mm, Pitch 0.5mm, Thermal Pad 5.6x5.6mm, IPC Medium Density)
footprint CYP-LT48D_L (QFN, 48-Leads, Body 7x7mm, Pitch 0.5mm, Thermal Pad 5.6x5.6mm, IPC High Density)
footprint CYP-LT48D_M (QFN, 48-Leads, Body 7x7mm, Pitch 0.5mm, Thermal Pad 5.6x5.6mm, IPC Low Density)
pins: 1 P2[3] (io) "Direct switched capacitor block input.", 2 P2[1] (io) "Direct switched capacitor block input.", 3 P4[7] (io), 4 P4[5] (io), 5 P4[3] (io), 6 P4[1] (io), 7 SMP (power) "Switch Mode Pump (SMP) connection to external components", 8 P3[7] (io), 9 P3[5] (io), 10 P3[3] (io), 11 P3[1] (io), 12 P5[3] (io), 13 P5[1] (io), 14 P1[7] (io) "I2C0 Serial Clock (SCL)", 15 P1[5] (io) "I2C0 Serial Data (SDA)", 16 P1[3] (io), 17 P1[1] (io) "Crystal Input (XTALin), I2C0 Serial Clock(SCL),ISSP-Sclk", 18 VSS (power) "Ground connection", 19 P1[0] (io) "Crystal Output (XTALout), I2C0 Serial Data(SDA),ISSP-SDATA", 20 P1[2] (io) "I2C1 Serial Data (SDA).", 21 P1[4] (io) "Optional External Clock Input(EXTCLK)", 22 P1[6] (io) "I2C1 Serial Clock (SCL)", 23 P5[0] (io), 24 P5[2] (io), 25 P3[0] (io) "I2C1 Serial Data (SDA)", 26 P3[2] (io) "I2C1 Serial Clock (SCL)", 27 P3[4] (io), 28 P3[6] (io), 29 XRES (in) "Active high external reset with internal pull-down", 30 P4[0] (io), 31 P4[2] (io), 32 P4[4] (io), 33 P4[6] (io), 34 P2[0] (io) "Direct switched capacitor block input", 35 P2[2] (io) "Direct switched capacitor block input", 36 P2[4] (power) "External Analog Ground (AGND)", 37 P2[6] (io) "External Voltage Reference (VRef)", 38 P0[0] (io) "Analog column mux and SAR ADC input", 39 P0[2] (io) "Analog column mux and SAR ADC input.Analog column output", 40 P0[4] (io) "Analog column mux and SAR ADC input.Analog column output", 41 P0[6] (io) "Analog column mux and SAR ADC input", 42 VDD (power) "Supply voltage", 43 P0[7] (io) "Analog column mux and SAR ADC input", 44 P0[5] (io) "Analog column mux and SAR ADC input.Analog column output", 45 P0[3] (io) "Analog column mux and SAR ADC input.Analog column output", 46 P0[1] (io) "Analog column mux and SAR ADC input", 47 P2[7] (io), 48 P2[5] (io), 49 EP (power)